# Altium schematic symbol library ST25RU3993_RF_MODULE.SCHLIB: 256 symbols (part 4 of 8)
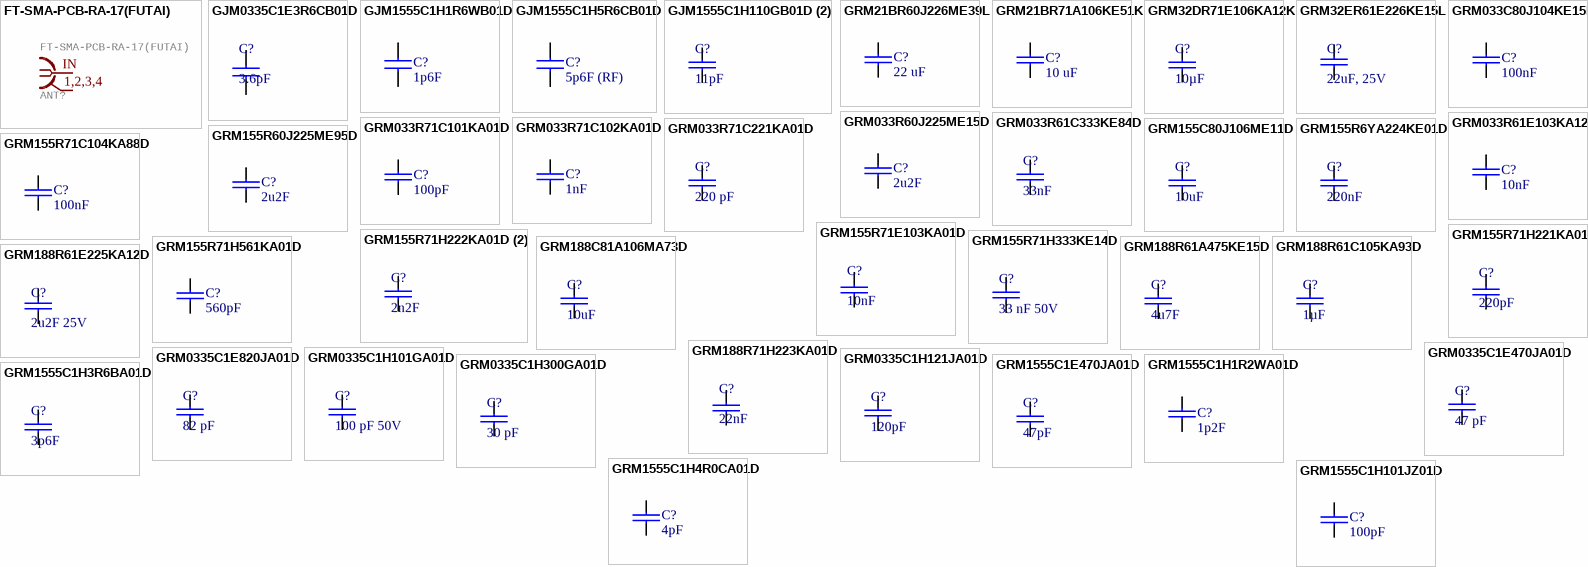
[diagram p9: symbols FT-SMA-PCB-RA-17(FUTAI) to GRM1555C1H101JZ01D]

## GRM155R60J225ME95D
designator C?, comment 2u2F
CAP CER 2.2UF 6.3V  X5R  0402; Manufacturer: Murata Electronics North America; Manufacturer Part Number: GRM155R60J225ME95D; Tolerance: ±20%; Notification: Current market demand for these product types have resulted in fluctuating and extending lead times. Lead times may differ.; Supplier 1: Digi-Key; Supplier Part Number 1: 490-13407-1-ND; RoHS: RoHS Compliant; Category: Capacitors; Stock: 8; Pricing: 1=0.08, 10=0.059, 100=0.0259, 500=0.01852, 1000=0.01455, 2500=0.01323, 5000=0.01218 (EUR); Packaging: Cut Tape (CT); Part Status: Active; Voltage - Rated: 6.3V; Temperature Coefficient: X5R; Operating Temperature: -55°C ~ 85°C; Features: -; Ratings: -; Applications: General Purpose; Mounting Type: Surface Mount, MLCC; Package / Case: 0402 (1005 Metric); Size / Dimension: 0.039" L x 0.020" W (1.00mm x 0.50mm); Height - Seated (Max): -; Thickness (Max): 0.022" (0.55mm); Lead Spacing: -; Lead Style: -; ComponentLink1URL: http://search.murata.co.jp/Ceramy/image/img/A01X/G101/ENG/GRM155R60J225ME95-01.pdf; ComponentLink1Description: http://search.murata.co.jp/Ceramy/image/img/A01X/G101/ENG/GRM155R60J225ME95-01.pdf
footprint C0402-RF
pins: 1, 2

## GRM155R71C104KA88D
designator C?, comment 100nF
CAP CER 0.1UF 16V X7R 0402; Manufacturer: Murata Electronics North America; Manufacturer Part Number: GRM155R71C104KA88D; Capacitance: 0.10µF; Tolerance: ±10%; Exact Component Match: no; Supplier 1: Digi-Key; Supplier Part Number 1: 490-3261-1-ND; RoHS: RoHS Compliant; Category: Capacitors; Stock 1: 20025332; Pricing 1: 1=0.16, 10=0.019, 50=0.0104, 100=0.0087, 250=0.00716, 500=0.00612, 1000=0.00475, 5000=0.00396 (EUR); Packaging: Cut Tape (CT); Part Status: Active; Voltage - Rated: 16V; Temperature Coefficient: X7R; Operating Temperature: -55°C ~ 125°C; Features: -; Ratings: -; Applications: General Purpose; Failure Rate: *; Mounting Type: Surface Mount, MLCC; Package / Case: 0402 (1005 Metric); Size / Dimension: 0.039" L x 0.020" W (1.00mm x 0.50mm); Height - Seated (Max): -; Thickness (Max): 0.022" (0.55mm); Lead Spacing: -; Lead Style: -; ComponentLink1URL: http://www.murata.com/~/media/webrenewal/support/library/catalog/products/capacitor/mlcc/c02e.pdf; ComponentLink1Description: http://www.murata.com/~/media/webrenewal/support/library/catalog/products/capacitor/mlcc/c02e.pdf; Manufacturer 1: Murata Electronics North America; Manufacturer Part Number 1: GRM155R71C104KA88D
footprint C0402-RF
pins: 1, 2

## GRM155R71E103KA01D
designator C?, comment 10nF
CAP CER 10000PF 25V X7R 0402; Manufacturer: Murata; Manufacturer Part Number: GRM155R71E103KA01D; Dielectric Material: Ceramic; Tolerance: 10%; Insulation Resistance: 10GR; Supplier 1: Digi-Key; Supplier Part Number 1: 490-1312-1-ND; RoHS: Yes; Stock: 3271298; Pricing: 1 = 0.10000, 10 = 0.02900, 100 = 0.01300, 500 = 0.00928, 1000 = 0.00729, 2500 = 0.00662, 5000 = 0.00610 (USD); Mount: Surface Mount; Case/Package: 0402; Number of Pins: 2; Case Code (Imperial): 0402; Case Code (Metric): 1005; Material: Ceramic; Min Operating Temperature: -55°C; Max Operating Temperature: 125°C; Capacitance: 10nF; Packaging: Tape and Reel; Voltage Rating: 25V; Voltage Rating (DC): 25V; Dielectric: X7R; Termination: SMD/SMT; Package Quantity: 1; Voltage: 25V; Length: 1mm; Height: 0.5mm; Width: 0.5mm; Depth: 0.5mm; Thickness: 0.022inch; Radiation Hardening: No; Lead Free: Lead Free; REACH SVHC: No SVHC; ComponentLink1URL: http://uk.rs-online.com/webdocs/13d2/0900766b813d2ca3.pdf; ComponentLink1Description: http://uk.rs-online.com/webdocs/13d2/0900766b813d2ca3.pdf; ComponentLink2URL: https://www.verical.com/server-webapp/html/getDatasheet?partID=161489; ComponentLink2Description: https://www.verical.com/server-webapp/html/getDatasheet?partID=161489; ComponentLink3URL: http://www.farnell.com/datasheets/1699889.pdf; ComponentLink3Description: http://www.farnell.com/datasheets/1699889.pdf; ComponentLink4URL: http://www.farnell.com/datasheets/1747448.pdf; ComponentLink4Description: http://www.farnell.com/datasheets/1747448.pdf; ComponentLink5URL: http://psearch.murata.com/capacitor/product/GRM155R71E103KA01%23.pdf; ComponentLink5Description: http://psearch.murata.com/capacitor/product/GRM155R71E103KA01%23.pdf; ComponentLink6URL: http://components.arrow.com/part/dataview/41292955S9850715N2606; ComponentLink6Description: http://components.arrow.com/part/dataview/41292955S9850715N2606; ComponentLink7URL: https://www.murata.com/~/media/webrenewal/support/library/catalog/products/capacitor/mlcc/c02e.ashx?la=en-us; ComponentLink7Description: https://www.murata.com/~/media/webrenewal/support/library/catalog/products/capacitor/mlcc/c02e.ashx?la=en-us; ComponentLink8URL: https://produktinfo.conrad.com/datenblaetter/450000-474999/454154-da-01-en-VS_KONDENSATOR_0402.pdf; ComponentLink8Description: https://produktinfo.conrad.com/datenblaetter/450000-474999/454154-da-01-en-VS_KONDENSATOR_0402.pdf
footprint C0402-RF
pins: 1, 2

## GRM155R71H221KA01D
designator C?, comment 220pF
CAP CER 220PF 50V X7R 0402; Manufacturer: Murata; Manufacturer Part Number: GRM155R71H221KA01D; Material: Ceramic; Tolerance: 10%; Supplier 1: Mouser; Supplier Part Number 1: 81-GRM155R71H221KA01; Stock: 0; Pricing: 1=0.1, 10=0.047, 50=0.047, 100=0.02, 1000=0.012, 10000=0.008 (USD); Mount: Surface Mount; Case/Package: 0402; Number of Pins: 2; Case Code (Metric): 1005; Case Code (Imperial): 0402; Min Operating Temperature: -55°C; Max Operating Temperature: 125°C; Package Quantity: 1; Capacitance: 220pF; Voltage Rating: 50V; Packaging: Tape and Reel; Voltage Rating (DC): 50V; Dielectric: X7R; Termination: SMD/SMT; Voltage: 50V; Length: 1mm; Height: 0.5mm; Width: 0.02inch; Thickness: 0.022inch; Depth: 0.5mm; Radiation Hardening: No; Lead Free: Lead Free; REACH SVHC: No SVHC; ComponentLink1URL: https://datasheet.ciiva.com/18101/getdatasheetpartid-37830-18101059.pdf; ComponentLink1Description: https://datasheet.ciiva.com/18101/getdatasheetpartid-37830-18101059.pdf; ComponentLink2URL: https://datasheet.ciiva.com/19476/1856450-19476323.pdf; ComponentLink2Description: https://datasheet.ciiva.com/19476/1856450-19476323.pdf; ComponentLink3URL: https://datasheet.ciiva.com/29199/454266-da-01-en-vs-kondensator-0402-29199758.pdf; ComponentLink3Description: https://datasheet.ciiva.com/29199/454266-da-01-en-vs-kondensator-0402-29199758.pdf; ComponentLink4URL: https://datasheet.ciiva.com/129/partnumbering-e-01-129858.pdf; ComponentLink4Description: https://datasheet.ciiva.com/129/partnumbering-e-01-129858.pdf; ComponentLink5URL: https://datasheet.ciiva.com/129/partnumbering-e-01-129859.pdf; ComponentLink5Description: https://datasheet.ciiva.com/129/partnumbering-e-01-129859.pdf; ComponentLink6URL: https://datasheet.ciiva.com/129/partnumbering-e-01-129860.pdf; ComponentLink6Description: https://datasheet.ciiva.com/129/partnumbering-e-01-129860.pdf; ComponentLink7URL: https://datasheet.ciiva.com/22698/608985-22698422.pdf; ComponentLink7Description: https://datasheet.ciiva.com/22698/608985-22698422.pdf; ComponentLink8URL: https://datasheet.ciiva.com/11605/product-11605114.pdf; ComponentLink8Description: https://datasheet.ciiva.com/11605/product-11605114.pdf; ComponentLink9URL: https://datasheet.ciiva.com/7937/608985-7937627.pdf; ComponentLink9Description: https://datasheet.ciiva.com/7937/608985-7937627.pdf; ComponentLink10URL: https://datasheet.ciiva.com/2989/product-2989405.pdf; ComponentLink10Description: https://datasheet.ciiva.com/2989/product-2989405.pdf
footprint C0402-RF
pins: 1, 2

## GRM155R71H222KA01D (2)
designator C?, comment 2n2F
CAP CER 2.2NF 50V X7R 0402; Manufacturer: Murata Electronics North America; Manufacturer Part Number: GRM155R71H222KA01D; Tolerance: ±10%; Notification: Current market demand for these product types have resulted in fluctuating and extending lead times. Lead times may differ.; Frequency: 700MHz; Insertion Loss: 0.6dB; Max Power Dissipation: 2W; Return Loss: -24dB; Dielectric Material: Ceramic; Capacitance: 220nF; Voltage Rating: 6.3V; Dielectric: X5R; Dissipation Factor: 10%; Current: 2A; DC Resistance (DCR): 30mR; Supplier 1: Digi-Key; Supplier Part Number 1: 490-1305-1-ND; RoHS: RoHS Compliant; Category: Capacitors; Stock: 254292; Pricing: 1=0.08, 10=0.013, 100=0.0054, 500=0.00386, 1000=0.00304, 2500=0.00276, 5000=0.00254 (EUR); Packaging: Cut Tape (CT); Part Status: Active; Voltage - Rated: 50V; Temperature Coefficient: X7R; Operating Temperature: -55°C ~ 125°C; Features: -; Ratings: -; Applications: General Purpose; Mounting Type: Surface Mount, MLCC; Package / Case: 0402 (1005 Metric); Size / Dimension: 0.039" L x 0.020" W (1.00mm x 0.50mm); Height - Seated (Max): -; Thickness (Max): 0.022" (0.55mm); Lead Spacing: -; Lead Style: -; ComponentLink1URL: https://www.murata.com/~/media/webrenewal/support/library/catalog/products/capacitor/mlcc/c02e.ashx?la=en-us; ComponentLink1Description: https://www.murata.com/~/media/webrenewal/support/library/catalog/products/capacitor/mlcc/c02e.ashx?la=en-us; Supplier 2: Mouser; Supplier Part Number 2: 620-DC0710J5005AHF; Case/Package: 0805; Package Quantity: 4000; ComponentLink2URL: http://www.mouser.com/ds/2/21/DC0710J5005AHF_Datasheet_RevA-469174.pdf; ComponentLink2Description: http://www.mouser.com/ds/2/21/DC0710J5005AHF_Datasheet_RevA-469174.pdf; ComponentLink3URL: https://www.anaren.com/sites/default/files/Part-Datasheets/DC0710J5005AHF_Datasheet_RevB.pdf; ComponentLink3Description: https://www.anaren.com/sites/default/files/Part-Datasheets/DC0710J5005AHF_Datasheet_RevB.pdf; Supplier 3: Mouser; Supplier Part Number 3: 810-C0603X5R0J224KBB; Mount: Surface Mount; Weight: 6E-06oz; Case Code (Metric): 0603; Case Code (Imperial): 0201; Min Operating Temperature: -55°C; Max Operating Temperature: 85°C; Termination: SMD/SMT; Voltage Rating (DC): 6.3V; Voltage: 6.3V; Length: 0.6mm; Height: 0.3mm; Depth: 0.3mm; Width: 0.012inch; Thickness: 0.013inch; Lead Free: Lead Free; REACH SVHC: No SVHC; ComponentLink4URL: https://datasheet.ciiva.com/6251/tdkmlcccaprange-6251014.pdf; ComponentLink4Description: https://datasheet.ciiva.com/6251/tdkmlcccaprange-6251014.pdf; ComponentLink5URL: https://datasheet.ciiva.com/23802/1796654-23802491.pdf; ComponentLink5Description: https://datasheet.ciiva.com/23802/1796654-23802491.pdf; ComponentLink6URL: https://datasheet.ciiva.com/22725/1913358-22725389.pdf; ComponentLink6Description: https://datasheet.ciiva.com/22725/1913358-22725389.pdf; ComponentLink7URL: https://datasheet.ciiva.com/22725/1913358-22725390.pdf; ComponentLink7Description: https://datasheet.ciiva.com/22725/1913358-22725390.pdf; ComponentLink8URL: https://datasheet.ciiva.com/16425/e412-c-16425759.pdf; ComponentLink8Description: https://datasheet.ciiva.com/16425/e412-c-16425759.pdf; Supplier 4: Digi-Key; Supplier Part Number 4: 490-16919-1-ND
footprint C0402-RF
pins: 1, 2

## GRM155R71H333KE14D
designator C?, comment 33 nF 50V
Multilayer Ceramic Capacitors MLCC - SMD/SMT 0402 0.033uF 50volts X7R 10%; Manufacturer: Murata; Manufacturer Part Number: GRM155R71H333KE14D; Capacitance: 33nF; Supplier 1: Digi-Key; Supplier Part Number 1: 490-11984-6-ND; Stock: 0; Pricing: 1=0.1, 10=0.038, 100=0.0169, 500=0.01208, 1000=0.00949, 2500=0.00862, 5000=0.00794 (USD); Mount: Surface Mount; Case/Package: 0402; Case Code (Metric): 1005; Case Code (Imperial): 0402; Min Operating Temperature: -55°C; Max Operating Temperature: 125°C; Packaging: Tape and Reel; Voltage Rating: 50V; Tolerance: 10%; Voltage Rating (DC): 50V; Length: 0.039inch; Width: 0.02inch; Thickness: 0.022inch; ComponentLink1URL: http://www.mouser.com/ds/2/281/c02e-2905.pdf; ComponentLink1Description: http://www.mouser.com/ds/2/281/c02e-2905.pdf; ComponentLink2URL: http://psearch.en.murata.com/capacitor/product/GRM155R71H333KE14%23.pdf; ComponentLink2Description: http://psearch.en.murata.com/capacitor/product/GRM155R71H333KE14%23.pdf; ComponentLink3URL: http://search.murata.co.jp/Ceramy/image/img/A01X/partnumbering_e_01.pdf; ComponentLink3Description: http://search.murata.co.jp/Ceramy/image/img/A01X/partnumbering_e_01.pdf; ComponentLink4URL: http://search.murata.co.jp/Ceramy/image/img/A01X/G101/ENG/GRM155R71H333KE14-01.pdf; ComponentLink4Description: http://search.murata.co.jp/Ceramy/image/img/A01X/G101/ENG/GRM155R71H333KE14-01.pdf
footprint C0402-RF
pins: 1, 2

## GRM155R71H561KA01D
designator C?, comment 560pF
CAP CER 560PF 50V X7R 0402; Manufacturer: Murata Electronics North America; Manufacturer Part Number: GRM155R71H561KA01D; Tolerance: ±10%; Exact Component Match: no; Supplier 1: Digi-Key; Supplier Part Number 1: 490-1301-1-ND; RoHS: RoHS Compliant; Category: Capacitors; Stock 1: 133523; Pricing 1: 1=0.09, 10=0.016, 50=0.0088, 100=0.0075, 250=0.00608, 500=0.0052, 1000=0.00405, 5000=0.00338 (EUR); Packaging: Cut Tape (CT); Part Status: Active; Capacitance: 560pF; Voltage - Rated: 50V; Temperature Coefficient: X7R; Operating Temperature: -55°C ~ 125°C; Features: -; Ratings: -; Applications: General Purpose; Failure Rate: *; Mounting Type: Surface Mount, MLCC; Package / Case: 0402 (1005 Metric); Size / Dimension: 0.039" L x 0.020" W (1.00mm x 0.50mm); Height - Seated (Max): -; Thickness (Max): 0.022" (0.55mm); Lead Spacing: -; Lead Style: -; ComponentLink1URL: http://www.murata.com/~/media/webrenewal/support/library/catalog/products/capacitor/mlcc/c02e.pdf; ComponentLink1Description: http://www.murata.com/~/media/webrenewal/support/library/catalog/products/capacitor/mlcc/c02e.pdf; Manufacturer 1: Murata Electronics North America; Manufacturer Part Number 1: GRM155R71H561KA01D
footprint C0402-RF
pins: 1, 2

## GRM188C81A106MA73D
designator C?, comment 10uF
CAP CER 10µF 10V X6S 0603 ±20% -55°C ~ 105°C; Manufacturer: Murata; Manufacturer Part Number: GRM188C81A106MA73D; Material: Ceramic; Supplier 1: Digi-Key; Supplier Part Number 1: 490-7197-1-ND; Stock: 0; Pricing: 1=0.48, 10=0.332, 100=0.1992, 500=0.14942, 1000=0.12618 (USD); Mount: Surface Mount; Case/Package: 0603; Case Code (Metric): 1608; Case Code (Imperial): 0603; Min Operating Temperature: -55°C; Max Operating Temperature: 105°C; Capacitance: 10uF; Tolerance: 20%; Dielectric: X6S; Voltage Rating (DC): 10V; Package Quantity: 4000; Packaging: Cut Tape; Voltage Rating: 10V; Length: 0.063inch; Height: 0.8mm; Width: 0.031inch; Thickness: 0.031inch; REACH SVHC: No SVHC; Lead Free: Lead Free; ComponentLink1URL: https://www.murata.com/~/media/webrenewal/support/library/catalog/products/capacitor/mlcc/c02e.ashx?la=en-us; ComponentLink1Description: https://www.murata.com/~/media/webrenewal/support/library/catalog/products/capacitor/mlcc/c02e.ashx?la=en-us
footprint C0603-ss
pins: 1, 2

## GRM188R61A475KE15D
designator C?, comment 4u7F
CAP CER 4.7UF 10V X5R 0603; Manufacturer: Murata Electronics North America; Manufacturer Part Number: GRM188R61A475KE15D; Tolerance: ±10%; Notification: Current market demand for these product types have resulted in fluctuating and extending lead times. Lead times may differ.; Supplier 1: Digi-Key; Supplier Part Number 1: 490-10477-1-ND; RoHS: RoHS Compliant; Category: Capacitors; Stock: 0; Pricing: 1=0.13, 10=0.088, 100=0.0414, 500=0.02906, 1000=0.02406 (EUR); Packaging: Cut Tape (CT); Part Status: Active; Voltage - Rated: 10V; Temperature Coefficient: X5R; Operating Temperature: -55°C ~ 85°C; Features: -; Ratings: -; Applications: General Purpose; Mounting Type: Surface Mount, MLCC; Package / Case: 0603 (1608 Metric); Size / Dimension: 0.063" L x 0.032" W (1.60mm x 0.80mm); Height - Seated (Max): -; Thickness (Max): 0.039" (1.00mm); Lead Spacing: -; Lead Style: -; ComponentLink1URL: http://search.murata.co.jp/Ceramy/image/img/A01X/G101/ENG/GRM188R61A475KE15-01.pdf; ComponentLink1Description: http://search.murata.co.jp/Ceramy/image/img/A01X/G101/ENG/GRM188R61A475KE15-01.pdf
footprint C0603-ss
pins: 1, 2

## GRM188R61C105KA93D
designator C?, comment 1µF
CAP CER 1UF 16V X5R 0603; Manufacturer: Murata; Manufacturer Part Number: GRM188R61C105KA93D; Tolerance: 10%; Self Resonant Frequency: 16MHz; Shielding: Shielded; Current Rating: 7.5A; Inductance Tolerance: 20%; Inductance: 18uh; DC Resistance (DCR): 22mR; Test Frequency: 100kHz; Series Resistance: 22R; Supplier 1: Farnell; Supplier Part Number 1: 1828801; RoHS: Yes; Stock: 120; Pricing: 10 = 0.10400, 100 = 0.05790, 500 = 0.03420, 1000 = 0.02750 (CHF); Mount: Surface Mount; Case/Package: 0603; Number of Pins: 2; Case Code (Imperial): 0603; Case Code (Metric): 1608; Min Operating Temperature: -55°C; Max Operating Temperature: 85°C; Capacitance: 1uF; Voltage Rating: 16V; Packaging: Tape and Reel; Voltage Rating (DC): 16V; Package Quantity: 1; Dielectric: X5R; Termination: SMD/SMT; Voltage: 16V; Length: 1.6mm; Height: 0.8mm; Width: 0.8mm; Thickness: 0.035inch; Depth: 0.8mm; Radiation Hardening: No; REACH SVHC: No SVHC; Lead Free: Lead Free; ComponentLink1URL: http://components.arrow.com/part/dataview/41894212S8438040N2606; ComponentLink1Description: http://components.arrow.com/part/dataview/41894212S8438040N2606; ComponentLink2URL: http://psearch.murata.com/capacitor/product/GRM188R61C105KA93%23.pdf; ComponentLink2Description: http://psearch.murata.com/capacitor/product/GRM188R61C105KA93%23.pdf; ComponentLink3URL: https://www.murata.com/~/media/webrenewal/support/library/catalog/products/capacitor/mlcc/c02e.ashx?la=en-us; ComponentLink3Description: https://www.murata.com/~/media/webrenewal/support/library/catalog/products/capacitor/mlcc/c02e.ashx?la=en-us; ComponentLink4URL: http://psearch.en.murata.com/capacitor/product/GRM188R61C105KA93%23.pdf; ComponentLink4Description: http://psearch.en.murata.com/capacitor/product/GRM188R61C105KA93%23.pdf; ComponentLink5URL: http://www.farnell.com/datasheets/608985.pdf; ComponentLink5Description: http://www.farnell.com/datasheets/608985.pdf; ComponentLink6URL: http://search.murata.co.jp/Ceramy/image/img/w_hinm/L0005E.pdf; ComponentLink6Description: http://search.murata.co.jp/Ceramy/image/img/w_hinm/L0005E.pdf; Supplier 2: Digi-Key; Supplier Part Number 2: 732-3880-1-ND; Saturation Current: 7.5A; Max DC Current: 7.5A; Composition: Wirewound; RMS Current (Irms): 7.5A; Height - Seated (Max): 0.256inch; ComponentLink7URL: http://www.mouser.com/ds/2/445/7443551181-539491.pdf; ComponentLink7Description: http://www.mouser.com/ds/2/445/7443551181-539491.pdf; ComponentLink8URL: http://katalog.we-online.de/pbs/datasheet/7443551181.pdf; ComponentLink8Description: http://katalog.we-online.de/pbs/datasheet/7443551181.pdf; ComponentLink9URL: https://katalog.we-online.de/pbs/datasheet/7443551181.pdf; ComponentLink9Description: https://katalog.we-online.de/pbs/datasheet/7443551181.pdf; ComponentLink10URL: http://www.farnell.com/datasheets/1735906.pdf; ComponentLink10Description: http://www.farnell.com/datasheets/1735906.pdf; ComponentLink11URL: http://documents.rs-components.com/techlib://itc_doclist_GB.htm?stockno=7362087; ComponentLink11Description: http://documents.rs-components.com/techlib://itc_doclist_GB.htm?stockno=7362087; ComponentLink12URL: http://www.produktinfo.conrad.com/datenblaetter/1000000-1099999/001087491-da-01-ml-WE_HCI_SMD_HOCHSTROMIND_7443551181_de_en.pdf; ComponentLink12Description: http://www.produktinfo.conrad.com/datenblaetter/1000000-1099999/001087491-da-01-ml-WE_HCI_SMD_HOCHSTROMIND_7443551181_de_en.pdf
footprint C0603
pins: 1, 2

## GRM188R61E225KA12D
designator C?, comment 2u2F 25V
MURATA   GRM188R61E225KA12D   SMD Multilayer Ceramic Capacitor, GRM Series, 2.2 F,  10%, X5R, 25 V, 0603 [1608 Metric]; Capacitance: 2.2uF; Supplier 1: Digi-Key; Supplier Part Number 1: 490-10731-1-ND; Manufacturer: Murata; Manufacturer Part Number: GRM188R61E225KA12D; RoHS: Yes; Stock: 1057158; Pricing: 1 = 0.17000, 10 = 0.12200, 100 = 0.05760, 500 = 0.04036, 1000 = 0.03341 (USD); Mount: Surface Mount; Case/Package: 0603; Number of Pins: 2; Weight: 0.000222oz; Case Code (Metric): 1608; Case Code (Imperial): 0603; Material: Ceramic; Min Operating Temperature: -55°C; Max Operating Temperature: 85°C; Tolerance: 10%; Voltage Rating: 25V; Packaging: Tape and Reel; Voltage Rating (DC): 25V; Dielectric: X5R; Package Quantity: 4000; Termination: SMD/SMT; Composition: Ceramic; Voltage: 25V; Length: 1.6mm; Height: 0.8mm; Width: 0.8mm; Thickness: 0.035inch; Depth: 0.8mm; Radiation Hardening: No; Lead Free: Lead Free; REACH SVHC: No SVHC; ComponentLink1URL: http://www.farnell.com/datasheets/1747460.pdf; ComponentLink1Description: http://www.farnell.com/datasheets/1747460.pdf; ComponentLink2URL: https://www.distrelec.biz/Web/Downloads/_t/ds/murata_MLCC_eng_tds.pdf?mime=application%2Fpdf; ComponentLink2Description: https://www.distrelec.biz/Web/Downloads/_t/ds/murata_MLCC_eng_tds.pdf?mime=application%2Fpdf
footprint C0603
pins: 1, 2

## GRM188R71H223KA01D
designator C?, comment 22nF
CAP CER 0.022UF 50V X7R 0603; Manufacturer: Murata; Manufacturer Part Number: GRM188R71H223KA01D; Dielectric Material: Ceramic; Tolerance: 10%; Insulation Resistance: 10GR; Supplier 1: Digi-Key; Supplier Part Number 1: 490-1517-1-ND; RoHS: Yes; Stock: 3376; Pricing: 1 = 0.10000, 10 = 0.07600, 100 = 0.03380, 500 = 0.02416, 1000 = 0.01898 (USD); Mount: Surface Mount; Case/Package: 0603; Number of Pins: 2; Case Code (Metric): 1608; Case Code (Imperial): 0603; Material: Ceramic; Min Operating Temperature: -55°C; Max Operating Temperature: 125°C; Capacitance: 22nF; Voltage Rating: 50V; Packaging: Tape and Reel; Voltage Rating (DC): 50V; Package Quantity: 1; Dielectric: X7R; Termination: SMD/SMT; Voltage: 50V; Length: 1.6mm; Height: 0.8mm; Width: 0.031inch; Depth: 0.8mm; Thickness: 0.035inch; Radiation Hardening: No; Lead Free: Lead Free; REACH SVHC: No SVHC; ComponentLink1URL: http://uk.rs-online.com/webdocs/1423/0900766b81423d35.pdf; ComponentLink1Description: http://uk.rs-online.com/webdocs/1423/0900766b81423d35.pdf; ComponentLink2URL: https://www.verical.com/server-webapp/html/getDatasheet?partID=31866; ComponentLink2Description: https://www.verical.com/server-webapp/html/getDatasheet?partID=31866; ComponentLink3URL: https://www.murata.com/~/media/webrenewal/support/library/catalog/products/capacitor/mlcc/c02e.ashx?la=en-us; ComponentLink3Description: https://www.murata.com/~/media/webrenewal/support/library/catalog/products/capacitor/mlcc/c02e.ashx?la=en-us; ComponentLink4URL: http://www.mouser.com/ds/2/281/c02e-2905.pdf; ComponentLink4Description: http://www.mouser.com/ds/2/281/c02e-2905.pdf; ComponentLink5URL: http://www.jameco.com/Jameco/Products/ProdDS/1857671.pdf; ComponentLink5Description: http://www.jameco.com/Jameco/Products/ProdDS/1857671.pdf; ComponentLink6URL: https://produktinfo.conrad.com/datenblaetter/450000-474999/451808-da-01-en-VS_KONDENSATOR_0603.pdf; ComponentLink6Description: https://produktinfo.conrad.com/datenblaetter/450000-474999/451808-da-01-en-VS_KONDENSATOR_0603.pdf
footprint C0603
pins: 1, 2

## GRM0335C1E470JA01D
designator C?, comment 47 pF
CAP CER 47pF 25V C0G 5% 0201; Manufacturer: Murata; Manufacturer Part Number: GRM0335C1E470JA01D; Supplier 1: Digi-Key; Supplier Part Number 1: 490-1256-6-ND; Stock: 150000; Pricing: 1=0.1, 10=0.014, 100=0.0064, 500=0.00456, 1000=0.00358, 2500=0.00325, 5000=0.00299 (USD); Mount: Surface Mount; Case/Package: 0201; Case Code (Metric): 0603; Case Code (Imperial): 0201; Min Operating Temperature: -55°C; Max Operating Temperature: 125°C; Capacitance: 47pF; Tolerance: 5%; Voltage Rating: 25V; Packaging: Tape and Reel; Package Quantity: 15000; Dielectric: C0G; Termination: SMD/SMT; Voltage Rating (DC): 25V; Length: 0.024inch; Width: 0.012inch; Thickness: 0.013inch; Depth: 0.3mm; REACH SVHC: No SVHC; Lead Free: Lead Free; ComponentLink1URL: https://datasheet.ciiva.com/5435/product-5435546.pdf; ComponentLink1Description: https://datasheet.ciiva.com/5435/product-5435546.pdf; ComponentLink2URL: https://datasheet.ciiva.com/18697/partnumbering-e-01-18697789.pdf; ComponentLink2Description: https://datasheet.ciiva.com/18697/partnumbering-e-01-18697789.pdf; ComponentLink3URL: https://datasheet.ciiva.com/18697/partnumbering-e-01-18697790.pdf; ComponentLink3Description: https://datasheet.ciiva.com/18697/partnumbering-e-01-18697790.pdf; ComponentLink4URL: https://datasheet.ciiva.com/18697/partnumbering-e-01-18697791.pdf; ComponentLink4Description: https://datasheet.ciiva.com/18697/partnumbering-e-01-18697791.pdf
footprint C0201-RF
pins: 1, 2

## GRM0335C1E820JA01D
designator C?, comment 82 pF
Multilayer Ceramic Capacitors MLCC - SMD/SMT 0201 82pF 25volts C0G +/-5%; Manufacturer: Murata; Manufacturer Part Number: GRM0335C1E820JA01D; Tolerance: 5%; Voltage Rating: 25V; Supplier 1: Digi-Key; Supplier Part Number 1: 490-11303-6-ND; Stock: 120064; Pricing: 1=0.1, 10=0.014, 100=0.0064, 500=0.00456, 1000=0.00358, 2500=0.00325, 5000=0.00299 (USD); Mount: Surface Mount; Case/Package: 0201; Case Code (Metric): 0603; Case Code (Imperial): 0201; Min Operating Temperature: -55°C; Max Operating Temperature: 125°C; Capacitance: 82pF; Voltage Rating (DC): 25V; Packaging: Tape and Reel; Package Quantity: 15000; Dielectric: C0G; Termination: SMD/SMT; Length: 0.024inch; Height: 0.3mm; Width: 0.012inch; Thickness: 0.013inch; Lead Free: Lead Free; ComponentLink1URL: https://datasheet.ciiva.com/29538/grm0335c1e820ja01-01-29538864.pdf; ComponentLink1Description: https://datasheet.ciiva.com/29538/grm0335c1e820ja01-01-29538864.pdf; Supplier 2: Digi-Key; Supplier Part Number 2: 490-6149-6-ND; Depth: 0.3mm; Radiation Hardening: No; ComponentLink2URL: https://datasheet.ciiva.com/6263/product-6263584.pdf; ComponentLink2Description: https://datasheet.ciiva.com/6263/product-6263584.pdf; ComponentLink3URL: https://datasheet.ciiva.com/26843/getdatasheetpartid-477220-26843745.pdf; ComponentLink3Description: https://datasheet.ciiva.com/26843/getdatasheetpartid-477220-26843745.pdf; ComponentLink4URL: https://datasheet.ciiva.com/6263/partnumbering-e-01-6263582.pdf; ComponentLink4Description: https://datasheet.ciiva.com/6263/partnumbering-e-01-6263582.pdf; ComponentLink5URL: https://datasheet.ciiva.com/6263/partnumbering-e-01-6263583.pdf; ComponentLink5Description: https://datasheet.ciiva.com/6263/partnumbering-e-01-6263583.pdf
footprint C0201-RF
pins: 1, 2

## GRM0335C1H101GA01D
designator C?, comment 100 pF 50V
CAP CER 100PF 50V C0G/NP0 0201; Manufacturer: Murata Electronics North America; Manufacturer Part Number: GRM0335C1H101GA01D; Tolerance: ±2%; Temperature Coefficient: C0G, NP0; Notification: Current market demand for these product types have resulted in fluctuating and extending lead times. Lead times may differ.; Supplier 1: Digi-Key; Supplier Part Number 1: 490-7751-1-ND; RoHS: RoHS Compliant; Category: Capacitors; Stock: 30255; Pricing: 1=0.08, 10=0.017, 100=0.0074, 500=0.00528, 1000=0.00416, 2500=0.00378, 5000=0.00348 (EUR); Packaging: Cut Tape (CT); Part Status: Active; Voltage - Rated: 50V; Operating Temperature: -55°C ~ 125°C; Features: -; Ratings: -; Applications: General Purpose; Mounting Type: Surface Mount, MLCC; Package / Case: 0201 (0603 Metric); Size / Dimension: 0.024" L x 0.012" W (0.60mm x 0.30mm); Height - Seated (Max): -; Thickness (Max): 0.013" (0.33mm); Lead Spacing: -; Lead Style: -; ComponentLink1URL: http://search.murata.co.jp/Ceramy/image/img/A01X/G101/ENG/GRM0335C1H101GA01-01.pdf; ComponentLink1Description: http://search.murata.co.jp/Ceramy/image/img/A01X/G101/ENG/GRM0335C1H101GA01-01.pdf
footprint C0201-RF
pins: 1, 2

## GRM0335C1H121JA01D
designator C?, comment 120pF
CAP CER 120PF 50V C0G/NP0 0201; Manufacturer: Murata Electronics North America; Manufacturer Part Number: GRM0335C1H121JA01D; Tolerance: ±5%; Temperature Coefficient: C0G, NP0; Supplier 1: Digi-Key; RoHS: RoHS Compliant; Category: Capacitors; Stock: 535610; Pricing 1: 1=0.08, 10=0.012, 100=0.0053, 500=0.00376, 1000=0.00295, 2500=0.00268, 5000=0.00247 (EUR); Packaging: Cut Tape (CT); Part Status: Active; Voltage - Rated: 50V; Operating Temperature: -55°C ~ 125°C; Features: -; Ratings: -; Applications: General Purpose; Mounting Type: Surface Mount, MLCC; Package / Case: 0201 (0603 Metric); Size / Dimension: 0.024" L x 0.012" W (0.60mm x 0.30mm); Height - Seated (Max): -; Thickness (Max): 0.013" (0.33mm); Lead Spacing: -; Lead Style: -; ComponentLink1URL: http://search.murata.co.jp/Ceramy/image/img/A01X/G101/ENG/GRM0335C1H121JA01-01.pdf; ComponentLink1Description: http://search.murata.co.jp/Ceramy/image/img/A01X/G101/ENG/GRM0335C1H121JA01-01.pdf; Supplier Part Number 1: 490-7221-1-ND
footprint C0201-RF
pins: 1, 2

## GRM0335C1H300GA01D
designator C?, comment 30 pF
CAP CER 30PF 50V C0G/NP0 0201; Manufacturer: Murata Electronics North America; Manufacturer Part Number: GRM0335C1H300GA01D; Tolerance: ±2%; Temperature Coefficient: C0G, NP0; Supplier 1: Digi-Key; Supplier Part Number 1: 490-14560-1-ND; RoHS: RoHS Compliant; Category: Capacitors; Stock: 40960; Pricing: 1=0.08, 10=0.014, 100=0.0063, 500=0.00452, 1000=0.00354, 2500=0.00322, 5000=0.00296 (EUR); Packaging: Cut Tape (CT); Part Status: Active; Voltage - Rated: 50V; Operating Temperature: -55°C ~ 125°C; Features: -; Ratings: -; Applications: General Purpose; Failure Rate: -; Mounting Type: Surface Mount, MLCC; Package / Case: 0201 (0603 Metric); Size / Dimension: 0.024" L x 0.012" W (0.60mm x 0.30mm); Height - Seated (Max): -; Thickness (Max): 0.013" (0.33mm); Lead Spacing: -; Lead Style: -; ComponentLink1URL: http://search.murata.co.jp/Ceramy/image/img/A01X/G101/ENG/GRM0335C1H300GA01-01.pdf; ComponentLink1Description: http://search.murata.co.jp/Ceramy/image/img/A01X/G101/ENG/GRM0335C1H300GA01-01.pdf
footprint C0201-RF
pins: 1, 2

## GRM1555C1E470JA01D
designator C?, comment 47pF
CAP CER 47PF 25V C0G/NP0 0402; Manufacturer: Murata Electronics North America; Manufacturer Part Number: GRM1555C1E470JA01D; Tolerance: ±5%; Temperature Coefficient: C0G, NP0; Supplier 1: Digi-Key; RoHS: RoHS Compliant; Category: Capacitors; Stock: 172423; Pricing 1: 1=0.09, 10=0.012, 100=0.0054, 500=0.00388, 1000=0.00305, 2500=0.00278, 5000=0.00255 (EUR); Packaging: Cut Tape (CT); Part Status: Active; Voltage - Rated: 25V; Operating Temperature: -55°C ~ 125°C; Features: -; Ratings: -; Applications: General Purpose; Mounting Type: Surface Mount, MLCC; Package / Case: 0402 (1005 Metric); Size / Dimension: 0.039" L x 0.020" W (1.00mm x 0.50mm); Height - Seated (Max): -; Thickness (Max): 0.022" (0.55mm); Lead Spacing: -; Lead Style: -; ComponentLink1URL: http://www.murata.com/~/media/webrenewal/support/library/catalog/products/capacitor/mlcc/c02e.ashx; ComponentLink1Description: http://www.murata.com/~/media/webrenewal/support/library/catalog/products/capacitor/mlcc/c02e.ashx; Supplier Part Number 1: 490-10683-1-ND
footprint C0402-RF
pins: 1, 2

## GRM1555C1H1R2WA01D
designator C?, comment 1p2F
CAP CER 1.2PF 50V NP0 0402; Manufacturer: Murata Electronics North America; Manufacturer Part Number: GRM1555C1H1R2WA01D; Tolerance: ±0.05pF; Temperature Coefficient: C0G, NP0; Supplier 1: Digi-Key; Supplier Part Number 1: 490-6210-1-ND; RoHS: RoHS Compliant; Category: Capacitors; Stock 1: 22733; Pricing 1: 1=0.1, 10=0.036, 50=0.02, 100=0.0169, 250=0.01384, 500=0.01182, 1000=0.00921, 5000=0.00768 (EUR); Packaging: Cut Tape (CT); Part Status: Active; Capacitance: 1.2pF; Voltage - Rated: 50V; Operating Temperature: -55°C ~ 125°C; Features: -; Ratings: -; Applications: General Purpose; Mounting Type: Surface Mount, MLCC; Package / Case: 0402 (1005 Metric); Size / Dimension: 0.039" L x 0.020" W (1.00mm x 0.50mm); Height - Seated (Max): -; Thickness (Max): 0.022" (0.55mm); Lead Spacing: -; Lead Style: -; ComponentLink1URL: http://www.murata.com/~/media/webrenewal/support/library/catalog/products/capacitor/mlcc/c02e.pdf; ComponentLink1Description: http://www.murata.com/~/media/webrenewal/support/library/catalog/products/capacitor/mlcc/c02e.pdf
footprint C0402-RF
pins: 1, 2

## GRM1555C1H3R6BA01D
designator C?, comment 3p6F
CAP CER 3.6PF 50V C0G/NP0 0402; Manufacturer: Murata Electronics North America; Manufacturer Part Number: GRM1555C1H3R6BA01D; Tolerance: ±0.1pF; Temperature Coefficient: C0G, NP0; Supplier 1: Digi-Key; RoHS: RoHS Compliant; Category: Capacitors; Stock: 59070; Pricing 1: 1=0.08, 10=0.026, 100=0.0115, 500=0.00826, 1000=0.00649, 2500=0.0059, 5000=0.00543 (EUR); Packaging: Cut Tape (CT); Part Status: Active; Voltage - Rated: 50V; Operating Temperature: -55°C ~ 125°C; Features: -; Ratings: -; Applications: General Purpose; Mounting Type: Surface Mount, MLCC; Package / Case: 0402 (1005 Metric); Size / Dimension: 0.039" L x 0.020" W (1.00mm x 0.50mm); Height - Seated (Max): -; Thickness (Max): 0.022" (0.55mm); Lead Spacing: -; Lead Style: -; ComponentLink1URL: http://www.murata.com/~/media/webrenewal/support/library/catalog/products/capacitor/mlcc/c02e.ashx; ComponentLink1Description: http://www.murata.com/~/media/webrenewal/support/library/catalog/products/capacitor/mlcc/c02e.ashx; Supplier Part Number 1: 490-8205-1-ND
footprint C0402-RF
pins: 1, 2

## GRM1555C1H4R0CA01D
designator C?, comment 4pF
CAP CER 4PF 50V C0G/NP0 0402; Manufacturer: Murata Electronics North America; Manufacturer Part Number: GRM1555C1H4R0CA01D; Tolerance: ±0.25pF; Temperature Coefficient: C0G, NP0; Notification: Current market demand for these product types have resulted in fluctuating and extending lead times. Lead times may differ.; Supplier 1: Digi-Key; Supplier Part Number 1: 490-5873-1-ND; RoHS: RoHS Compliant; Category: Capacitors; Stock: 100953; Pricing: 1=0.08, 10=0.027, 100=0.012, 500=0.00854, 1000=0.00671, 2500=0.0061, 5000=0.00561 (EUR); Packaging: Cut Tape (CT); Part Status: Active; Voltage - Rated: 50V; Operating Temperature: -55°C ~ 125°C; Features: -; Ratings: -; Applications: General Purpose; Mounting Type: Surface Mount, MLCC; Package / Case: 0402 (1005 Metric); Size / Dimension: 0.039" L x 0.020" W (1.00mm x 0.50mm); Height - Seated (Max): -; Thickness (Max): 0.022" (0.55mm); Lead Spacing: -; Lead Style: -; ComponentLink1URL: https://www.murata.com/~/media/webrenewal/support/library/catalog/products/capacitor/mlcc/c02e.ashx?la=en-us; ComponentLink1Description: https://www.murata.com/~/media/webrenewal/support/library/catalog/products/capacitor/mlcc/c02e.ashx?la=en-us
footprint C0402-ss
pins: 1, 2

## GRM1555C1H101JZ01D
designator C?, comment 100pF
CAP CER 100PF 50V NP0 0402; Manufacturer: Murata Electronics North America; Manufacturer Part Number: GRM1555C1H101JZ01D; Tolerance: ±5%; Temperature Coefficient: C0G, NP0; Exact Component Match: no; Supplier 1: Digi-Key; Supplier Part Number 1: 490-3458-2-ND; RoHS: RoHS Compliant; Category: Capacitors; Stock 1: 0; Pricing 1: 10000=0 (EUR); Packaging: Tape & Reel (TR); Part Status: Obsolete; Capacitance: 100pF; Voltage - Rated: 50V; Operating Temperature: -55°C ~ 125°C; Features: -; Ratings: -; Applications: General Purpose; Failure Rate: *; Mounting Type: Surface Mount, MLCC; Package / Case: 0402 (1005 Metric); Size / Dimension: 0.039" L x 0.020" W (1.00mm x 0.50mm); Height - Seated (Max): -; Thickness (Max): 0.022" (0.55mm); Lead Spacing: -; Lead Style: -; ComponentLink1URL: http://media.digikey.com/pdf/Data%20Sheets/Murata%20PDFs/Chip%20Monolithic%20Ceramic%20Caps.pdf; ComponentLink1Description: http://media.digikey.com/pdf/Data%20Sheets/Murata%20PDFs/Chip%20Monolithic%20Ceramic%20Caps.pdf; Manufacturer 1: Murata Electronics North America; Manufacturer Part Number 1: GRM1555C1H101JZ01D
footprint C0402-RF
pins: 1, 2

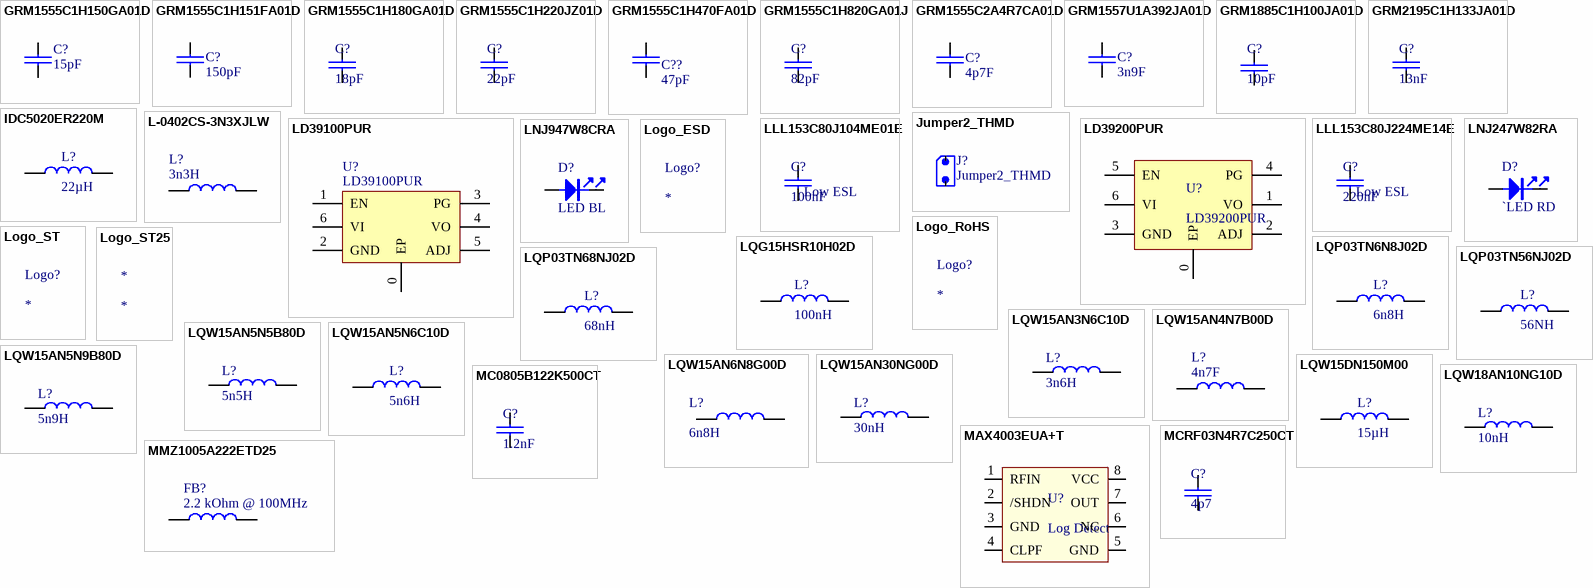
[diagram p3: symbols GRM1555C1H150GA01D to MMZ1005A222ETD25]

## GRM1555C1H150GA01D
designator C?, comment 15pF
CAP CER 15PF 50V NP0 0402; Manufacturer: Murata Electronics North America; Manufacturer Part Number: GRM1555C1H150GA01D; Tolerance: ±2%; Temperature Coefficient: C0G, NP0; Supplier 1: Digi-Key; Supplier Part Number 1: 490-6201-1-ND; RoHS: RoHS Compliant; Category: Capacitors; Stock 1: 104870; Pricing 1: 1=0.1, 10=0.021, 50=0.0114, 100=0.0095, 250=0.0078, 500=0.00666, 1000=0.00518, 5000=0.00432 (EUR); Packaging: Cut Tape (CT); Part Status: Active; Capacitance: 15pF; Voltage - Rated: 50V; Operating Temperature: -55°C ~ 125°C; Features: -; Ratings: -; Applications: General Purpose; Mounting Type: Surface Mount, MLCC; Package / Case: 0402 (1005 Metric); Size / Dimension: 0.039" L x 0.020" W (1.00mm x 0.50mm); Height - Seated (Max): -; Thickness (Max): 0.022" (0.55mm); Lead Spacing: -; Lead Style: -; ComponentLink1URL: http://www.murata.com/~/media/webrenewal/support/library/catalog/products/capacitor/mlcc/c02e.pdf; ComponentLink1Description: http://www.murata.com/~/media/webrenewal/support/library/catalog/products/capacitor/mlcc/c02e.pdf
footprint C0402-RF
pins: 1, 2

## GRM1555C1H151FA01D
designator C?, comment 150pF
CAP CER 150PF 50V NP0 0402; Manufacturer: Murata Electronics North America; Manufacturer Part Number: GRM1555C1H151FA01D; Tolerance: ±1%; Temperature Coefficient: C0G, NP0; Notification: Current market demand for these product types have resulted in fluctuating and extending lead times. Lead times may differ.; Supplier 1: Digi-Key; Supplier Part Number 1: 490-8185-1-ND; RoHS: RoHS Compliant; Category: Capacitors; Stock: 0; Pricing: 1=0.09, 10=0.068, 100=0.0318, 500=0.0223, 1000=0.01845, 2500=0.01718, 5000=0.01572 (EUR); Packaging: Cut Tape (CT); Part Status: Active; Voltage - Rated: 50V; Operating Temperature: -55°C ~ 125°C; Features: -; Ratings: -; Applications: General Purpose; Mounting Type: Surface Mount, MLCC; Package / Case: 0402 (1005 Metric); Size / Dimension: 0.039" L x 0.020" W (1.00mm x 0.50mm); Height - Seated (Max): -; Thickness (Max): 0.022" (0.55mm); Lead Spacing: -; Lead Style: -; ComponentLink1URL: http://search.murata.co.jp/Ceramy/image/img/A01X/G101/ENG/GRM1555C1H151FA01-01.pdf; ComponentLink1Description: http://search.murata.co.jp/Ceramy/image/img/A01X/G101/ENG/GRM1555C1H151FA01-01.pdf
footprint C0402-RF
pins: 1, 2

## GRM1555C1H180GA01D
designator C?, comment 18pF
CAP CER 18PF 50V C0G/NP0 0402; Manufacturer: Murata Electronics North America; Manufacturer Part Number: GRM1555C1H180GA01D; Tolerance: ±2%; Temperature Coefficient: C0G, NP0; Supplier 1: Digi-Key; RoHS: RoHS Compliant; Category: Capacitors; Stock: 0; Pricing 1: 1=0.08, 10=0.042, 100=0.0189, 500=0.01352, 1000=0.01063, 2500=0.00966, 5000=0.00889 (EUR); Packaging: Cut Tape (CT); Part Status: Active; Voltage - Rated: 50V; Operating Temperature: -55°C ~ 125°C; Features: -; Ratings: -; Applications: General Purpose; Mounting Type: Surface Mount, MLCC; Package / Case: 0402 (1005 Metric); Size / Dimension: 0.039" L x 0.020" W (1.00mm x 0.50mm); Height - Seated (Max): -; Thickness (Max): 0.022" (0.55mm); Lead Spacing: -; Lead Style: -; ComponentLink1URL: http://www.murata.com/~/media/webrenewal/support/library/catalog/products/capacitor/mlcc/c02e.ashx; ComponentLink1Description: http://www.murata.com/~/media/webrenewal/support/library/catalog/products/capacitor/mlcc/c02e.ashx; Supplier Part Number 1: 490-6204-1-ND
footprint C0402-RF
pins: 1, 2

## GRM1555C1H220JZ01D
designator C?, comment 22pF
CAPACITOR, 0402, 22PF, 50V; Manufacturer: Murata; Manufacturer Part Number: GRM1555C1H220JZ01D; Dielectric Material: Ceramic; Tolerance: 5%; Dielectric: C0G; Temperature Coefficient: 30ppm/°C; Insulation Resistance: 10GR; Supplier 1: Newark; RoHS: Yes; Category: Ceramic Capacitors; Pricing 1: 10=0,05300, 25=0,04500, 50=0,03800, 100=0,03000 (USD); Mount: Surface Mount; Case/Package: 0402; Number of Pins: 2; Case Code (Metric): 1005; Case Code (Imperial): 0402; Min Operating Temperature: -55°C; Max Operating Temperature: 125°C; Capacitance: 22pF; Voltage Rating: 50V; Packaging: Tape and Reel; Package Quantity: 1; Voltage Rating (DC): 50V; Termination: SMD/SMT; Voltage: 50V; Length: 1mm; Width: 0.5mm; Height: 0.5mm; Depth: 0.5mm; Thickness: 0.022inch; Radiation Hardening: No; Lead Free: Lead Free; REACH SVHC: No SVHC; ComponentLink1URL: https://datasheet.ciiva.com/7828/4360-7828848.pdf?src-supplier=Element14; ComponentLink1Description: https://datasheet.ciiva.com/7828/4360-7828848.pdf?src-supplier=Element14; ComponentLink2URL: https://datasheet.ciiva.com/11786/0900766b807a1cab-11786726.pdf?src-supplier=RSComponents; ComponentLink2Description: https://datasheet.ciiva.com/11786/0900766b807a1cab-11786726.pdf?src-supplier=RSComponents; ComponentLink3URL: https://datasheet.ciiva.com/18184/getdatasheetpartid-161479-18184269.pdf?src-supplier=Verical; ComponentLink3Description: https://datasheet.ciiva.com/18184/getdatasheetpartid-161479-18184269.pdf?src-supplier=Verical; ComponentLink4URL: https://datasheet.ciiva.com/3777/grm1555c1h220jz0123-3777133.pdf?src-supplier=Arrow+Electronics; ComponentLink4Description: https://datasheet.ciiva.com/3777/grm1555c1h220jz0123-3777133.pdf?src-supplier=Arrow+Electronics; ComponentLink5URL: https://datasheet.ciiva.com/131/partnumbering-e-01-131372.pdf?src-supplier=Digi-Key; ComponentLink5Description: https://datasheet.ciiva.com/131/partnumbering-e-01-131372.pdf?src-supplier=Digi-Key; ComponentLink6URL: https://datasheet.ciiva.com/131/partnumbering-e-01-131373.pdf?src-supplier=Digi-Key; ComponentLink6Description: https://datasheet.ciiva.com/131/partnumbering-e-01-131373.pdf?src-supplier=Digi-Key; ComponentLink7URL: https://datasheet.ciiva.com/131/partnumbering-e-01-131374.pdf?src-supplier=Digi-Key; ComponentLink7Description: https://datasheet.ciiva.com/131/partnumbering-e-01-131374.pdf?src-supplier=Digi-Key; ComponentLink8URL: https://datasheet.ciiva.com/6068/4360-6068270.pdf?src-supplier=Farnell; ComponentLink8Description: https://datasheet.ciiva.com/6068/4360-6068270.pdf?src-supplier=Farnell; ComponentLink9URL: https://datasheet.ciiva.com/14116/grmseries-tc-hitype-eng-14116926.pdf?src-supplier=Distrelec; ComponentLink9Description: https://datasheet.ciiva.com/14116/grmseries-tc-hitype-eng-14116926.pdf?src-supplier=Distrelec; Supplier Part Number 1: 38K1655
footprint C0402-RF
pins: 1, 2

## GRM1555C1H470FA01D
designator C??, comment 47pF
CAP CER 47PF 50V NP0 0402; Manufacturer: Murata Electronics North America; Manufacturer Part Number: GRM1555C1H470FA01D; Tolerance: ±1%; Temperature Coefficient: C0G, NP0; Supplier 1: Digi-Key; Supplier Part Number 1: 490-6241-1-ND; RoHS: RoHS Compliant; Category: Capacitors; Stock 1: 314331; Pricing 1: 1=0.1, 10=0.041, 50=0.0224, 100=0.019, 250=0.01556, 500=0.0133, 1000=0.01037, 5000=0.00864 (EUR); Packaging: Cut Tape (CT); Part Status: Active; Capacitance: 47pF; Voltage - Rated: 50V; Operating Temperature: -55°C ~ 125°C; Features: -; Ratings: -; Applications: General Purpose; Mounting Type: Surface Mount, MLCC; Package / Case: 0402 (1005 Metric); Size / Dimension: 0.039" L x 0.020" W (1.00mm x 0.50mm); Height - Seated (Max): -; Thickness (Max): 0.022" (0.55mm); Lead Spacing: -; Lead Style: -; ComponentLink1URL: http://www.murata.com/~/media/webrenewal/support/library/catalog/products/capacitor/mlcc/c02e.ashx; ComponentLink1Description: http://www.murata.com/~/media/webrenewal/support/library/catalog/products/capacitor/mlcc/c02e.ashx
footprint C0402-RF
pins: 1, 2

## GRM1555C1H820GA01J
designator C?, comment 82pF
CAP CER 82PF 50V C0G/NP0 0402; Manufacturer: Murata Electronics North America; Manufacturer Part Number: GRM1555C1H820GA01J; Tolerance: ±2%; Temperature Coefficient: C0G, NP0; Filter Type: Signal Line; Number of Lines: 1; Impedance @ Frequency: 1 kOhm @ 100MHz; Current Rating (Max): 250mA; DC Resistance (DCR) (Max): 1.1 Ohm; Type: Zener; Voltage - Reverse Standoff (Typ): 3V; Voltage - Breakdown (Min): 6V; Voltage - Clamping (Max) @ Ipp: 17V; Current - Peak Pulse (10/1000µs): 1A (8/20µs); Power - Peak Pulse: 40W; Power Line Protection: No; Capacitance @ Frequency: 0.4pF @ 200MHz ~ 3GHz; Supplier 1: Digi-Key; Supplier Part Number 1: 490-7760-1-ND; RoHS: RoHS Compliant; Category: Capacitors; Stock: 52112; Pricing: 1=0.08, 10=0.042, 100=0.0189, 500=0.01352, 1000=0.01063, 2500=0.00966, 5000=0.00889 (EUR); Packaging: Cut Tape (CT); Part Status: Active; Voltage - Rated: 50V; Operating Temperature: -55°C ~ 125°C; Features: -; Ratings: -; Applications: General Purpose; Mounting Type: Surface Mount, MLCC; Package / Case: 0402 (1005 Metric); Size / Dimension: 0.039" L x 0.020" W (1.00mm x 0.50mm); Height - Seated (Max): -; Thickness (Max): 0.022" (0.55mm); Lead Spacing: -; Lead Style: -; ComponentLink1URL: http://www.murata.com/~/media/webrenewal/support/library/catalog/products/capacitor/mlcc/c02e.ashx; ComponentLink1Description: http://www.murata.com/~/media/webrenewal/support/library/catalog/products/capacitor/mlcc/c02e.ashx; Supplier 2: Digi-Key; Supplier Part Number 2: 490-3999-1-ND; Height (Max): 0.022" (0.55mm); ComponentLink2URL: http://www.murata.com/en-global/products/productdata/8796740223006/ENFA0024.pdf; ComponentLink2Description: http://www.murata.com/en-global/products/productdata/8796740223006/ENFA0024.pdf; Supplier 3: Digi-Key; Supplier Part Number 3: 497-13413-1-ND; Supplier Device Package: SOD-882T; ComponentLink3URL: http://www.st.com/content/ccc/resource/technical/document/datasheet/e8/d2/ed/fd/e8/00/4a/29/DM00065056.pdf/files/DM00065056.pdf/jcr:content/translations/en.DM00065056.pdf; ComponentLink3Description: http://www.st.com/content/ccc/resource/technical/document/datasheet/e8/d2/ed/fd/e8/00/4a/29/DM00065056.pdf/files/DM00065056.pdf/jcr:content/translations/en.DM00065056.pdf
footprint C0402-RF
pins: 1, 2

## GRM1555C2A4R7CA01D
designator C?, comment 4p7F
CAP CER 4.7PF 100V NP0 0402; Manufacturer 1: Murata Electronics North America; Manufacturer Part Number 1: GRM1555C2A4R7CA01D; Tolerance: ±0.25pF; Temperature Coefficient: C0G, NP0; Type: kHz Crystal (Tuning Fork); Frequency: 32.768kHz; Frequency Tolerance: ±20ppm; Load Capacitance: 12.5pF; ESR (Equivalent Series Resistance): 70 kOhm; Operating Mode: Fundamental; Exact Component Match: no; Supplier 1: Digi-Key; Supplier Part Number 1: 490-7290-1-ND; RoHS: RoHS Compliant; Category: Capacitors; Stock 1: 25790; Pricing 1: 1=0.09, 10=0.027, 50=0.0146, 100=0.0124, 250=0.01012, 500=0.00866, 1000=0.00675, 5000=0.00563 (EUR); Packaging: Cut Tape (CT); Part Status: Active; Capacitance: 4.7pF; Voltage - Rated: 100V; Operating Temperature: -55°C ~ 125°C; Features: -; Ratings: -; Applications: General Purpose; Failure Rate: *; Mounting Type: Surface Mount, MLCC; Package / Case: 0402 (1005 Metric); Size / Dimension: 0.039" L x 0.020" W (1.00mm x 0.50mm); Height - Seated (Max): -; Thickness (Max): 0.022" (0.55mm); Lead Spacing: -; Lead Style: -; ComponentLink1URL: http://www.murata.com/~/media/webrenewal/support/library/catalog/products/capacitor/mlcc/c02e.pdf; ComponentLink1Description: http://www.murata.com/~/media/webrenewal/support/library/catalog/products/capacitor/mlcc/c02e.pdf; Supplier 2: Digi-Key; Supplier Part Number 2: 644-1156-2-ND; Manufacturer 2: NDK; Manufacturer Part Number 2: NX3215SA-32.768K-STD-MUA-8; Stock 2: 39000; Pricing 2: 3000=0.43075, 6000=0.41589, 15000=0.40104 (EUR); Frequency Stability: -; Height: 0.035" (0.90mm); ComponentLink2URL: http://www.ndk.com/images/products/catalog/c_NX3215SA-STD-MUA-14_e.pdf; ComponentLink2Description: http://www.ndk.com/images/products/catalog/c_NX3215SA-STD-MUA-14_e.pdf; Manufacturer: Murata Electronics North America; Manufacturer Part Number: GRM1555C2A4R7CA01D
footprint C0402-RF
pins: 1, 2

## GRM1557U1A392JA01D
designator C?, comment 3n9F
CAP CER 3900PF 10V U2J 0402; Manufacturer: Murata Electronics North America; Manufacturer Part Number: GRM1557U1A392JA01D; Tolerance: ±5%; Exact Component Match: no; Resistance: 47kR; Max Power Dissipation: 50mW; Voltage Rating: 25V; Supplier 1: Digi-Key; Supplier Part Number 1: 490-10691-1-ND; RoHS: RoHS Compliant; Category: Capacitors; Stock 1: 27875; Pricing 1: 1=0.18, 10=0.122, 50=0.0704, 100=0.0582, 250=0.04896, 500=0.04102, 1000=0.03367, 5000=0.02846 (EUR); Packaging: Cut Tape (CT); Part Status: Active; Capacitance: 3900pF; Voltage - Rated: 10V; Temperature Coefficient: U2J; Operating Temperature: -55°C ~ 125°C; Features: -; Ratings: -; Applications: General Purpose; Failure Rate: *; Mounting Type: Surface Mount, MLCC; Package / Case: 0402 (1005 Metric); Size / Dimension: 0.039" L x 0.020" W (1.00mm x 0.50mm); Height - Seated (Max): -; Thickness (Max): 0.022" (0.55mm); Lead Spacing: -; Lead Style: -; ComponentLink1URL: http://www.murata.com/~/media/webrenewal/support/library/catalog/products/capacitor/mlcc/c02e.pdf; ComponentLink1Description: http://www.murata.com/~/media/webrenewal/support/library/catalog/products/capacitor/mlcc/c02e.pdf; Manufacturer 1: Murata Electronics North America; Manufacturer Part Number 1: GRM1557U1A392JA01D; Supplier 2: Digi-Key; Supplier Part Number 2: 311-47KMDKR-ND; Stock: 0; Pricing: 1=0.1, 10=0.046, 100=0.0187, 1000=0.00841, 2500=0.0073, 5000=0.00603 (USD); Case/Package: 0201; Weight: 6E-06oz; Case Code (Metric): 0603; Case Code (Imperial): 0201; Contact Plating: Matte,Tin; Min Operating Temperature: -55°C; Max Operating Temperature: 125°C; Package Quantity: 1; Composition: Thick Film; Number of Terminations: 2; Termination: SMD/SMT; Power Rating: 50mW; Military Standard: Not; Length: 0.6mm; Height: 0.01inch; Width: 0.012inch; Depth: 0.3mm; Radiation Hardening: No; Lead Free: Lead Free; REACH SVHC: Unknown; ComponentLink2URL: http://www.yageo.com/documents/recent/PYu-RC0201_51_RoHS_L_8.pdf; ComponentLink2Description: http://www.yageo.com/documents/recent/PYu-RC0201_51_RoHS_L_8.pdf; ComponentLink3URL: http://www.yageo.com/documents/recent/PYu-RC_Group_51_RoHS_L_9.pdf; ComponentLink3Description: http://www.yageo.com/documents/recent/PYu-RC_Group_51_RoHS_L_9.pdf; ComponentLink4URL: http://www.farnell.com/datasheets/1563626.pdf; ComponentLink4Description: http://www.farnell.com/datasheets/1563626.pdf; ComponentLink5URL: http://www.yageo.com.tw/exep/pages/download/literatures/PYu-R_INT-thick_7.pdf; ComponentLink5Description: http://www.yageo.com.tw/exep/pages/download/literatures/PYu-R_INT-thick_7.pdf; ComponentLink6URL: https://www.verical.com/server-webapp/html/getDatasheet?partID=422496; ComponentLink6Description: https://www.verical.com/server-webapp/html/getDatasheet?partID=422496
footprint C0402-RF
pins: 1, 2